# Altium footprint library mw.PcbLib: 252 footprints (part 1 of 16)
Each footprint in its own frame and in the unit in brackets; x right, y up, seen from the top. Pads: shape width x height; smd on the part's side, far side on the other; paste and mask are expansions set on the pad; w line width, h text height; cw(c..) or ccw(c..) is an arc to the next point about the centre after c.
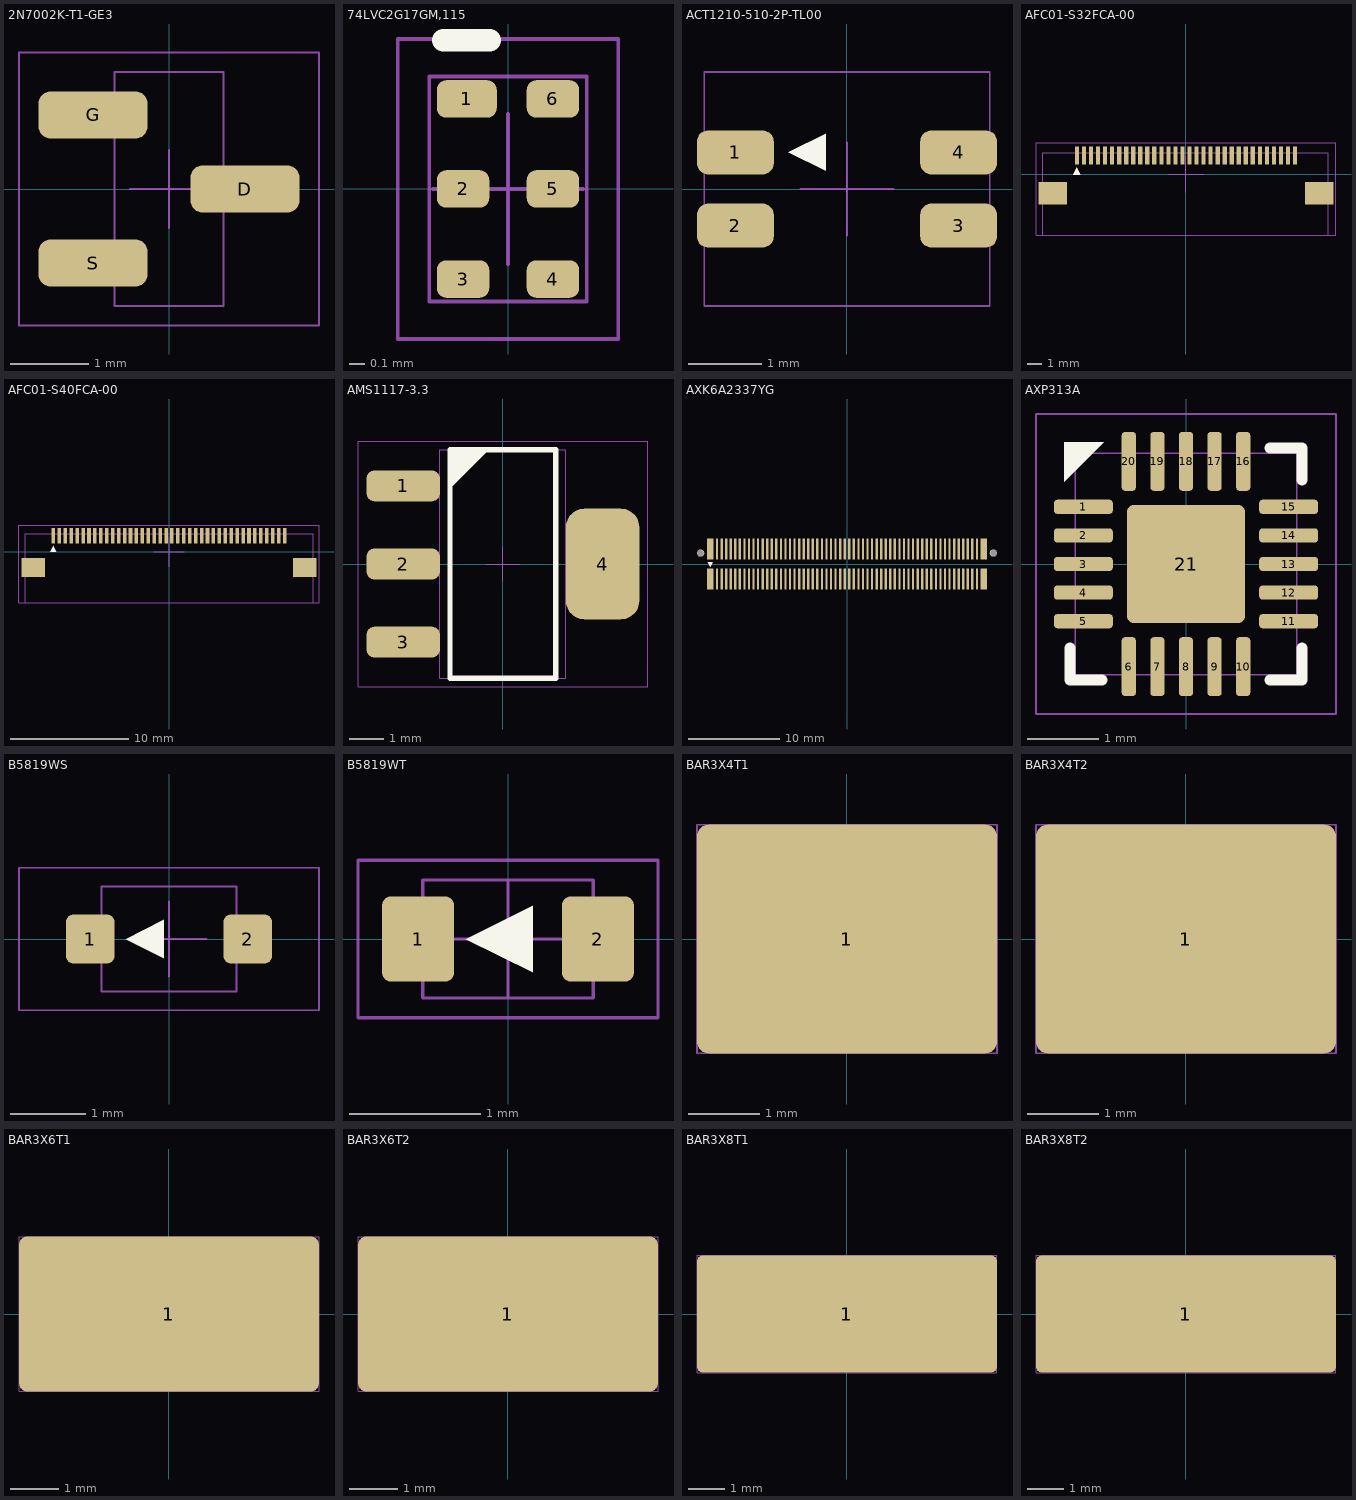
[diagram p0: the footprints below, top view; thin cyan lines are the x and y axes]

## 2N7002K-T1-GE3 [mm] "SOT23, 3-Leads, Body 2.90x2.37mm, Pitch 0.95mm, IPC Medium Density"
height 1
pads (3):
  rrect50% 1.4x0.6 smd: D(0.975,0) G(-0.975,0.95) S(-0.975,-0.95)
Top Assembly (Mech9):
  lines w0.025: -0.7,-1.5 -0.7,1.5 0.7,1.5 0.7,-1.5 -0.7,-1.5
Top Courtyard:
  lines w0.025: -0.5,0 0.5,0 ; 0,-0.5 0,0.5 ; -1.925,-1.75 -1.925,1.75 1.925,1.75 1.925,-1.75 -1.925,-1.75
3D body "2N7002K-T1-GE3.step": height 1, standoff 0, extent -1.32,-1.45 1.32,1.45

## 74LVC2G17GM,115 [mm] "PSON, 6-Leads, Body 1.45x1.00mm, Pitch 0.60mm, IPC Medium Density"
height 0.5
pads (6):
  rrect50% 0.4x0.25 smd: 1(-0.275,0.6)
  rrect50% 0.35x0.25 smd: 2(-0.3,0) 3(-0.3,-0.6) 4(0.3,-0.6) 5(0.3,0) 6(0.3,0.6)
Top Overlay:
  lines w0.15: -0.432,0.991 -0.121,0.991
Top 3D Body (Mech13):
  lines w0.025: -0.525,-0.75 0.525,-0.75 0.525,0.75 -0.525,0.75 -0.525,-0.75
Top Courtyard:
  lines w0.025: -0.5,0 0.5,0 ; 0,-0.5 0,0.5 ; -0.735,-1 0.735,-1 0.735,1 -0.735,1 -0.735,-1
3D body "74LVC2G17GM,115.step": height 0.5, standoff 0, extent -0.526,-0.75 0.526,0.75

## ACT1210-510-2P-TL00 [mm]
pads (4):
  rrect50% 1.05x0.6 smd: 1(-1.525,0.5) 2(-1.525,-0.5) 3(1.525,-0.5) 4(1.525,0.5)
Top Overlay:
  region: -0.292,0.246 -0.292,0.754 -0.8,0.5
Top Courtyard:
  lines w0.025: -0.635,0 0.635,0 ; 0,-0.635 0,0.635 ; -1.95,-1.6 1.95,-1.6 1.95,1.6 -1.95,1.6 -1.95,-1.6

## AFC01-S32FCA-00 [mm]
height 2
pads (34):
  rect 0.3x1.3 smd: 1(-7.75,1.34) 2(-7.25,1.34) 3(-6.75,1.34) 4(-6.25,1.34) 5(-5.75,1.34) 6(-5.25,1.34) 7(-4.75,1.34) 8(-4.25,1.34) 9(-3.75,1.34) 10(-3.25,1.34) 11(-2.75,1.34) 12(-2.25,1.34) 13(-1.75,1.34) 14(-1.25,1.34) 15(-0.75,1.34) 16(-0.25,1.34) 17(0.25,1.34) 18(0.75,1.34) 19(1.25,1.34) 20(1.75,1.34) 21(2.25,1.34) 22(2.75,1.34) 23(3.25,1.34) 24(3.75,1.34) 25(4.25,1.34) 26(4.75,1.34) 27(5.25,1.34) 28(5.75,1.34) 29(6.25,1.34) 30(6.75,1.34) 31(7.25,1.34) 32(7.75,1.34)
  rect 2x1.6 smd: ""(-9.463,-1.34) ""(9.463,-1.34)
Top Overlay:
  region: -8.004,-0.018 -7.496,-0.018 -7.75,0.49
Top 3D Body (Mech13):
  lines w0.025: -10.181,-4.321 10.119,-4.321 10.119,1.529 -10.181,1.529 -10.181,-4.321
Top Courtyard:
  lines w0.025: -1.27,0 1.27,0 ; 0,-1.27 0,1.27 ; 10.657,-4.321 -10.653,-4.321 -10.657,-4.318 -10.657,2.232 10.657,2.232 10.657,-4.318
3D body "fpc-32.step": height 2.11, standoff 0, extent -10.181,-4.321 10.119,1.529

## AFC01-S40FCA-00 [mm]
height 2
pads (42):
  rect 0.3x1.3 smd: 1(-9.75,1.34) 2(-9.25,1.34) 3(-8.75,1.34) 4(-8.25,1.34) 5(-7.75,1.34) 6(-7.25,1.34) 7(-6.75,1.34) 8(-6.25,1.34) 9(-5.75,1.34) 10(-5.25,1.34) 11(-4.75,1.34) 12(-4.25,1.34) 13(-3.75,1.34) 14(-3.25,1.34) 15(-2.75,1.34) 16(-2.25,1.34) 17(-1.75,1.34) 18(-1.25,1.34) 19(-0.75,1.34) 20(-0.25,1.34) 21(0.25,1.34) 22(0.75,1.34) 23(1.25,1.34) 24(1.75,1.34) 25(2.25,1.34) 26(2.75,1.34) 27(3.25,1.34) 28(3.75,1.34) 29(4.25,1.34) 30(4.75,1.34) 31(5.25,1.34) 32(5.75,1.34) 33(6.25,1.34) 34(6.75,1.34) 35(7.25,1.34) 36(7.75,1.34) 37(8.25,1.34) 38(8.75,1.34) 39(9.25,1.34) 40(9.75,1.34)
  rect 2x1.6 smd: ""(-11.463,-1.34) ""(11.463,-1.34)
Top Overlay:
  region: -10.004,-0.018 -9.496,-0.018 -9.75,0.49
Top 3D Body (Mech13):
  lines w0.025: -12.148,-4.321 12.152,-4.321 12.152,1.529 -12.148,1.529 -12.148,-4.321
Top Courtyard:
  lines w0.025: -1.27,0 1.27,0 ; 0,-1.27 0,1.27 ; -12.657,-4.318 -12.657,2.232 12.657,2.232 12.657,-4.321 -12.653,-4.321 -12.657,-4.318
3D body "fpc-40.step": height 2.11, standoff 0, extent -12.148,-4.321 12.152,1.529

## AMS1117-3.3 [mm] "SOT223, 4-Leads, Body 6.50x7.00mm (avg), Pitch 2.29mm, IPC Medium Density"
height 1.8
pads (4):
  rrect50% 2.15x0.9 smd: 1(-2.925,2.29) 2(-2.925,0) 3(-2.925,-2.29)
  rrect50% 2.15x3.25 smd paste-0.2: 4(2.925,0)
Top Overlay:
  region: -1.55,2.221 -1.55,3.35 -0.421,3.35
  lines w0.152: -1.55,-3.35 1.55,-3.35 1.55,3.35 -1.55,3.35 -1.55,-3.35
Top 3D Body (Mech13):
  lines w0.025: -1.85,-3.35 1.85,-3.35 1.85,3.35 -1.85,3.35 -1.85,-3.35
Top Courtyard:
  lines w0.025: -0.5,0 0.5,0 ; 0,-0.5 0,0.5 ; -4.25,-3.6 4.25,-3.6 4.25,3.6 -4.25,3.6 -4.25,-3.6
3D body "AMS1117-3.3.step": height 1.8, standoff 0, extent -3.5,-3.35 3.5,3.35

## AXK6A2337YG [mm] "AXK6A2337YG"
pads (122):
  rect 0.75x2.3 smd: 1(-15,-1.65) 2(-15,1.65) 119(15,-1.65) 120(15,1.65)
  rect 0.25x2.3 smd: 3(-14.25,-1.65) 4(-14.25,1.65) 5(-13.75,-1.65) 6(-13.75,1.65) 7(-13.25,-1.65) 8(-13.25,1.65) 9(-12.75,-1.65) 10(-12.75,1.65) 11(-12.25,-1.65) 12(-12.25,1.65) 13(-11.75,-1.65) 14(-11.75,1.65) 15(-11.25,-1.65) 16(-11.25,1.65) 17(-10.75,-1.65) 18(-10.75,1.65) 19(-10.25,-1.65) 20(-10.25,1.65) 21(-9.75,-1.65) 22(-9.75,1.65) 23(-9.25,-1.65) 24(-9.25,1.65) 25(-8.75,-1.65) 26(-8.75,1.65) 27(-8.25,-1.65) 28(-8.25,1.65) 29(-7.75,-1.65) 30(-7.75,1.65) 31(-7.25,-1.65) 32(-7.25,1.65) 33(-6.75,-1.65) 34(-6.75,1.65) 35(-6.25,-1.65) 36(-6.25,1.65) 37(-5.75,-1.65) 38(-5.75,1.65) 39(-5.25,-1.65) 40(-5.25,1.65) 41(-4.75,-1.65) 42(-4.75,1.65) 43(-4.25,-1.65) 44(-4.25,1.65) 45(-3.75,-1.65) 46(-3.75,1.65) 47(-3.25,-1.65) 48(-3.25,1.65) 49(-2.75,-1.65) 50(-2.75,1.65) 51(-2.25,-1.65) 52(-2.25,1.65) 53(-1.75,-1.65) 54(-1.75,1.65) 55(-1.25,-1.65) 56(-1.25,1.65) 57(-0.75,-1.65) 58(-0.75,1.65) 59(-0.25,-1.65) 60(-0.25,1.65) 61(0.25,-1.65) 62(0.25,1.65) 63(0.75,-1.65) 64(0.75,1.65) 65(1.25,-1.65) 66(1.25,1.65) 67(1.75,-1.65) 68(1.75,1.65) 69(2.25,-1.65) 70(2.25,1.65) 71(2.75,-1.65) 72(2.75,1.65) 73(3.25,-1.65) 74(3.25,1.65) 75(3.75,-1.65) 76(3.75,1.65) 77(4.25,-1.65) 78(4.25,1.65) 79(4.75,-1.65) 80(4.75,1.65) 81(5.25,-1.65) 82(5.25,1.65) 83(5.75,-1.65) 84(5.75,1.65) 85(6.25,-1.65) 86(6.25,1.65) 87(6.75,-1.65) 88(6.75,1.65) 89(7.25,-1.65) 90(7.25,1.65) 91(7.75,-1.65) 92(7.75,1.65) 93(8.25,-1.65) 94(8.25,1.65) 95(8.75,-1.65) 96(8.75,1.65) 97(9.25,-1.65) 98(9.25,1.65) 99(9.75,-1.65) 100(9.75,1.65) 101(10.25,-1.65) 102(10.25,1.65) 103(10.75,-1.65) 104(10.75,1.65) 105(11.25,-1.65) 106(11.25,1.65) 107(11.75,-1.65) 108(11.75,1.65) 109(12.25,-1.65) 110(12.25,1.65) 111(12.75,-1.65) 112(12.75,1.65) 113(13.25,-1.65) 114(13.25,1.65) 115(13.75,-1.65) 116(13.75,1.65) 117(14.25,-1.65) 118(14.25,1.65)
  round 0.8 hole 0.65: 121(-16.05,1.2) 122(16.05,1.2)
Top Overlay:
  region: -14.746,0.208 -15.254,0.208 -15,-0.3
3D body "axk6a2337yg.STEP": height 2.37, standoff -0.05, extent -16.6,-2.286 16.6,2.334

## AXP313A [mm] "QFN, 20-Leads, Body 3.00x3.00mm, Pitch 0.40mm, Thermal Pad 1.65x1.65mm, IPC Medium Density"
height 0.6
pads (21):
  rrect50% 0.825x0.2 smd: 1(-1.438,0.8) 2(-1.438,0.4) 3(-1.438,0) 4(-1.438,-0.4) 5(-1.438,-0.8) 11(1.438,-0.8) 12(1.438,-0.4) 13(1.438,0) 14(1.438,0.4) 15(1.438,0.8)
  rrect50% 0.2x0.825 smd: 6(-0.8,-1.438) 7(-0.4,-1.438) 8(0,-1.438) 9(0.4,-1.438) 10(0.8,-1.438) 16(0.8,1.438) 17(0.4,1.438) 18(0,1.438) 19(-0.4,1.438) 20(-0.8,1.438)
  rrect10% 1.65x1.65 smd paste-0.303: 21(0,0)
Top Overlay:
  region: -1.702,1.702 -1.149,1.702 -1.702,1.149
  lines w0.152: -1.626,-1.176 -1.626,-1.626 -1.176,-1.626 ; 1.176,-1.626 1.626,-1.626 1.626,-1.176 ; 1.176,1.626 1.626,1.626 1.626,1.176
Top 3D Body (Mech13):
  lines w0.025: -1.55,-1.55 -1.55,1.55 1.55,1.55 1.55,-1.55 -1.55,-1.55
Top Courtyard:
  lines w0.025: -0.5,0 0.5,0 ; 0,-0.5 0,0.5 ; -2.1,-2.1 -2.1,2.1 2.1,2.1 2.1,-2.1 -2.1,-2.1
3D body "AXP313A.step": height 0.6, standoff 0, extent -1.551,-1.551 1.551,1.551

## B5819WS [mm] "SOIC, 2-Leads, Body 1.30x1.70mm, Pitch 1.27mm, IPC Medium Density"
height 1.1
pads (2):
  rrect30% 0.65x0.65 smd: 1(-1.05,0) 2(1.05,0)
Top Overlay:
  region: -0.067,-0.254 -0.067,0.254 -0.575,0
Top 3D Body (Mech13):
  lines w0.025: -0.9,-0.7 0.9,-0.7 0.9,0.7 -0.9,0.7 -0.9,-0.7
Top Courtyard:
  lines w0.025: -0.5,0 0.5,0 ; 0,-0.5 0,0.5 ; -2,-0.95 2,-0.95 2,0.95 -2,0.95 -2,-0.95
3D body "B5819WS.step": height 1.1, standoff 0, extent -1.268,-0.7 1.268,0.7

## B5819WT [mm] "SODFL, 2-Leads, Body 1.20x0.80mm, IPC Medium Density"
height 0.7
pads (2):
  rrect25% 0.55x0.65 smd: 1(-0.685,0) 2(0.685,0)
Top Overlay:
  region: 0.187,-0.254 0.187,0.254 -0.321,0
Top 3D Body (Mech13):
  lines w0.025: -0.65,-0.45 0.65,-0.45 0.65,0.45 -0.65,0.45 -0.65,-0.45
Top Courtyard:
  lines w0.025: -0.45,0 0.45,0 ; 0,-0.45 0,0.45 ; -1.143,-0.6 -1.143,0.6 1.143,0.6 1.143,-0.6 -1.143,-0.6
3D body "B5819WT.step": height 0.7, standoff 0, extent -0.8,-0.45 0.8,0.45

## BAR3X4T1 [mm]
pads (1):
  rrect10% 4.2x3.2 smd paste-2539.97: 1(0,0)
Top Paste:
  rectangle: 0.3,-1.3 1.3,-0.3
  rectangle: -1.3,-1.3 -0.3,-0.3
  rectangle: 0.3,0.3 1.3,1.3
  rectangle: -1.3,0.3 -0.3,1.3
Top Courtyard:
  lines w0.025: -0.635,0 0.635,0 ; 0,-0.635 0,0.635 ; -2.1,-1.6 2.1,-1.6 2.1,1.6 -2.1,1.6 -2.1,-1.6
3D body "BAR3X4T1.step": height 1, standoff 0, extent -2,-1.5 2,1.5

## BAR3X4T2 [mm]
pads (1):
  rrect10% 4.2x3.2 smd paste-2539.97: 1(0,0)
Top Paste:
  rectangle: 0.3,-1.3 1.3,-0.3
  rectangle: -1.3,-1.3 -0.3,-0.3
  rectangle: 0.3,0.3 1.3,1.3
  rectangle: -1.3,0.3 -0.3,1.3
Top Courtyard:
  lines w0.025: -0.635,0 0.635,0 ; 0,-0.635 0,0.635 ; -2.1,-1.6 -2.1,1.6 2.1,1.6 2.1,-1.6 -2.1,-1.6
3D body "BAR3X4T2.step": height 2, standoff 0, extent -2,-1.5 2,1.5

## BAR3X6T1 [mm]
pads (1):
  rrect10% 6.2x3.2 smd paste-2539.97: 1(0,0)
Top Paste:
  rectangle: 0.3,-1.3 1.3,-0.3
  rectangle: -1.3,-1.3 -0.3,-0.3
  rectangle: 0.3,0.3 1.3,1.3
  rectangle: -1.3,0.3 -0.3,1.3
  rectangle: 1.9,-1.3 2.9,-0.3
  rectangle: 1.9,0.3 2.9,1.3
  rectangle: -2.9,-1.3 -1.9,-0.3
  rectangle: -2.9,0.3 -1.9,1.3
Top Courtyard:
  lines w0.025: -0.635,0 0.635,0 ; 0,-0.635 0,0.635 ; -3.1,-1.6 -3.1,1.6 3.1,1.6 3.1,-1.6 -3.1,-1.6
3D body "BAR3X6T1.step": height 1, standoff 0, extent -3,-1.5 3,1.5

## BAR3X6T2 [mm]
pads (1):
  rrect10% 6.2x3.2 smd paste-2539.97: 1(0,0)
Top Paste:
  rectangle: 0.3,-1.3 1.3,-0.3
  rectangle: -1.3,-1.3 -0.3,-0.3
  rectangle: 0.3,0.3 1.3,1.3
  rectangle: -1.3,0.3 -0.3,1.3
  rectangle: 1.9,-1.3 2.9,-0.3
  rectangle: 1.9,0.3 2.9,1.3
  rectangle: -2.9,-1.3 -1.9,-0.3
  rectangle: -2.9,0.3 -1.9,1.3
Top Courtyard:
  lines w0.025: -0.635,0 0.635,0 ; 0,-0.635 0,0.635 ; -3.1,-1.6 -3.1,1.6 3.1,1.6 3.1,-1.6 -3.1,-1.6
3D body "BAR3X6T2.step": height 2, standoff 0, extent -3,-1.5 3,1.5

## BAR3X8T1 [mm]
pads (1):
  rrect10% 8.2x3.2 smd paste-2539.97: 1(0,0)
Top Paste:
  rectangle: 0.3,-1.3 1.3,-0.3
  rectangle: -1.3,-1.3 -0.3,-0.3
  rectangle: 0.3,0.3 1.3,1.3
  rectangle: -1.3,0.3 -0.3,1.3
  rectangle: 1.9,-1.3 2.9,-0.3
  rectangle: 1.9,0.3 2.9,1.3
  rectangle: -2.9,-1.3 -1.9,-0.3
  rectangle: -2.9,0.3 -1.9,1.3
Top Courtyard:
  lines w0.025: -0.635,0 0.635,0 ; 0,-0.635 0,0.635 ; -4.1,-1.6 -4.1,1.6 4.1,1.6 4.1,-1.6 -4.1,-1.6
3D body "BAR3X8T1.step": height 1, standoff 0, extent -4,-1.5 4,1.5

## BAR3X8T2 [mm]
pads (1):
  rrect10% 8.2x3.2 smd paste-2539.97: 1(0,0)
Top Paste:
  rectangle: 0.3,-1.3 1.3,-0.3
  rectangle: -1.3,-1.3 -0.3,-0.3
  rectangle: 0.3,0.3 1.3,1.3
  rectangle: -1.3,0.3 -0.3,1.3
  rectangle: 1.9,-1.3 2.9,-0.3
  rectangle: 1.9,0.3 2.9,1.3
  rectangle: -2.9,-1.3 -1.9,-0.3
  rectangle: -2.9,0.3 -1.9,1.3
Top Courtyard:
  lines w0.025: -0.635,0 0.635,0 ; 0,-0.635 0,0.635 ; -4.1,-1.6 -4.1,1.6 4.1,1.6 4.1,-1.6 -4.1,-1.6
3D body "BAR3X8T2.step": height 2, standoff 0, extent -4,-1.5 4,1.5